# EAGLE library part LTC6903 (library parts)
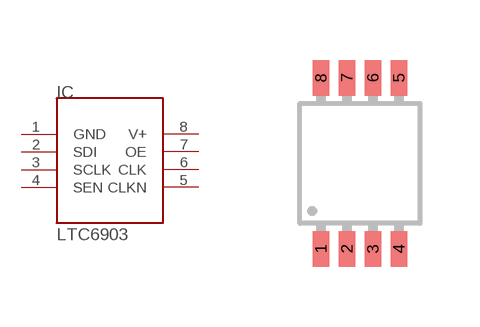
[diagram p0: symbol with the pads of MS8; footprint MS8]

Designator prefix IC

## LTC6903  [MS8]
1  GND
2  SDI
3  SCLK
4  SEN
5  CLKN
6  CLK
7  OE
8  V+

## Footprint MS8 (pad centres in mm)
smd 0.419 x 0.889: 1 -0.975,-2.14; 2 -0.325,-2.14; 3 0.325,-2.14; 4 0.975,-2.14; 5 0.975,2.14; 6 0.325,2.14; 7 -0.325,2.14; 8 -0.975,2.14